# Altium schematic symbol library mva_Connector_Antena.SchLib: 1 symbol
Pins are listed as number, name and electrical type; pins without a type are passive.

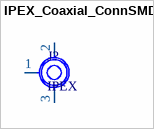
[diagram p0: symbol IPEX_Coaxial_ConnSMD]

## IPEX_Coaxial_ConnSMD
designator J?, comment IPEX
IPEX Coaxial connector SMD pad.
footprint IPEX_Coaxial_ConnSMD
pins: 1, 2, 3